# EAGLE library part DSPIC33EP512GM310 (library capstone)
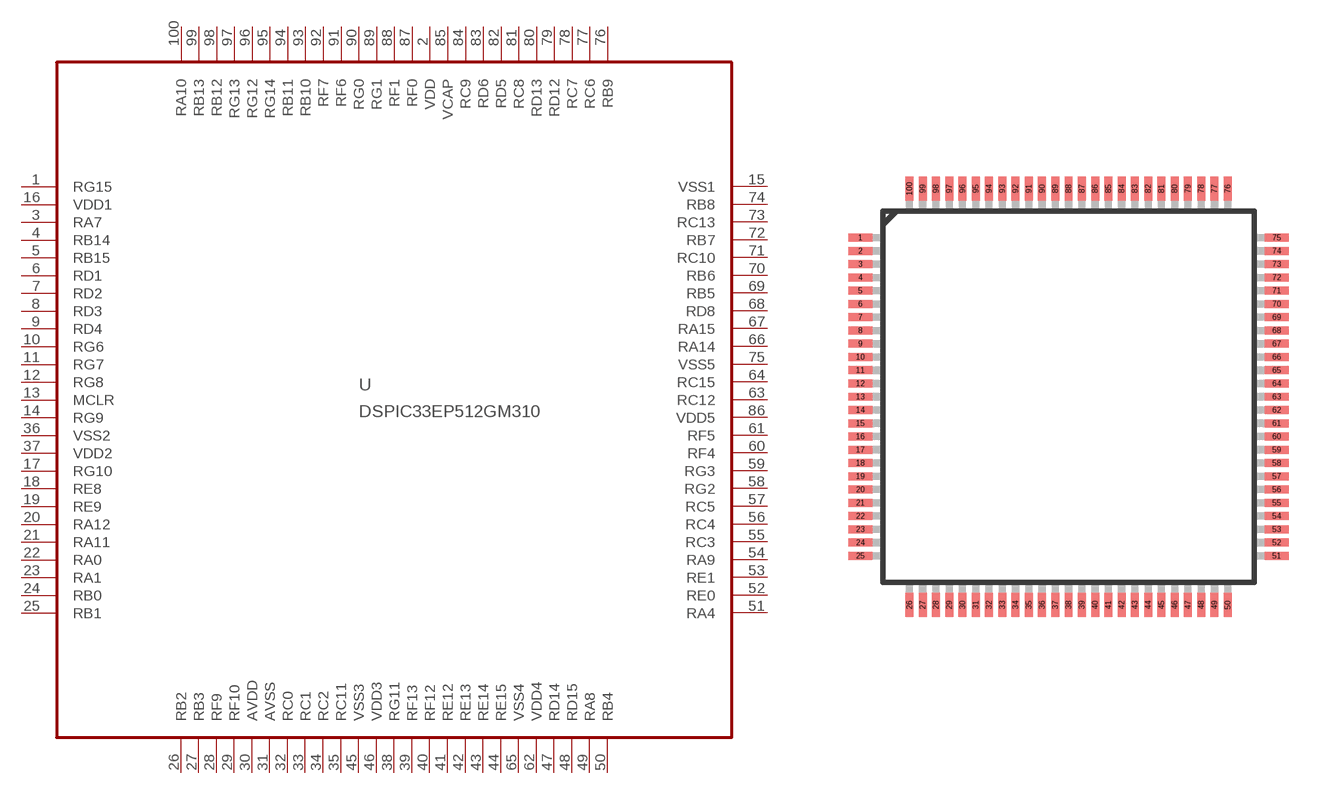
[diagram p0: symbol with the pads of TQFP100; footprint TQFP100]

Designator prefix U

## DSPIC33EP512GM310  [TQFP100]
1  RG15
2  VDD  pas
3  RA7
4  RB14
5  RB15
6  RD1
7  RD2
8  RD3
9  RD4
10  RG6
11  RG7
12  RG8
13  MCLR
14  RG9
15  VSS1  pwr
16  VDD1  pwr
17  RG10  in
18  RE8
19  RE9
20  RA12  out
21  RA11  in
22  RA0
23  RA1
24  RB0
25  RB1
26  RB2
27  RB3
28  RF9
29  RF10
30  AVDD  pwr
31  AVSS  pwr
32  RC0
33  RC1
34  RC2
35  RC11
36  VSS2  pwr
37  VDD2  pwr
38  RG11  in
39  RF13
40  RF12
41  RE12
42  RE13
43  RE14
44  RE15
45  VSS3  pwr
46  VDD3  pwr
47  RD14
48  RD15
49  RA8
50  RB4
51  RA4
52  RE0
53  RE1
54  RA9
55  RC3
56  RC4
57  RC5
58  RG2
59  RG3
60  RF4
61  RF5
62  VDD4  pwr
63  RC12
64  RC15
65  VSS4  pwr
66  RA14
67  RA15
68  RD8
69  RB5
70  RB6
71  RC10
72  RB7
73  RC13
74  RB8
75  VSS5  pwr
76  RB9
77  RC6
78  RC7
79  RD12
80  RD13
81  RC8
82  RD5
83  RD6
84  RC9
85  VCAP  pwr
86  VDD5  pwr
87  RF0
88  RF1
89  RG1
90  RG0
91  RF6
92  RF7
93  RB10
94  RB11
95  RG14
96  RG12
97  RG13
98  RB12
99  RB13
100  RA10

## Footprint TQFP100 (pad centres in mm)
PLASTIC 100-PIN TQFP (PZ) Auto generated by make-symbol-device-package-bsdl.ulp Rev. 19 Source: http://focus.ti.com/docs/prod/folders/print/msp430fg4618.html
smd 0.9 x 0.3: 1 -7.85,6; 2 -7.85,5.5; 3 -7.85,5; 4 -7.85,4.5; 5 -7.85,4; 6 -7.85,3.5; 7 -7.85,3; 8 -7.85,2.5; 9 -7.85,2; 10 -7.85,1.5; 11 -7.85,1; 12 -7.85,0.5; 13 -7.85,0; 14 -7.85,-0.5; 15 -7.85,-1; 16 -7.85,-1.5; 17 -7.85,-2; 18 -7.85,-2.5; 19 -7.85,-3; 20 -7.85,-3.5; 21 -7.85,-4; 22 -7.85,-4.5; 23 -7.85,-5; 24 -7.85,-5.5; 25 -7.85,-6; 51 7.85,-6; 52 7.85,-5.5; 53 7.85,-5; 54 7.85,-4.5; 55 7.85,-4; 56 7.85,-3.5; 57 7.85,-3; 58 7.85,-2.5; 59 7.85,-2; 60 7.85,-1.5; 61 7.85,-1; 62 7.85,-0.5; 63 7.85,0; 64 7.85,0.5; 65 7.85,1; 66 7.85,1.5; 67 7.85,2; 68 7.85,2.5; 69 7.85,3; 70 7.85,3.5; 71 7.85,4; 72 7.85,4.5; 73 7.85,5; 74 7.85,5.5; 75 7.85,6
smd 0.3 x 0.9: 26 -6,-7.85; 27 -5.5,-7.85; 28 -5,-7.85; 29 -4.5,-7.85; 30 -4,-7.85; 31 -3.5,-7.85; 32 -3,-7.85; 33 -2.5,-7.85; 34 -2,-7.85; 35 -1.5,-7.85; 36 -1,-7.85; 37 -0.5,-7.85; 38 0,-7.85; 39 0.5,-7.85; 40 1,-7.85; 41 1.5,-7.85; 42 2,-7.85; 43 2.5,-7.85; 44 3,-7.85; 45 3.5,-7.85; 46 4,-7.85; 47 4.5,-7.85; 48 5,-7.85; 49 5.5,-7.85; 50 6,-7.85; 76 6,7.85; 77 5.5,7.85; 78 5,7.85; 79 4.5,7.85; 80 4,7.85; 81 3.5,7.85; 82 3,7.85; 83 2.5,7.85; 84 2,7.85; 85 1.5,7.85; 86 1,7.85; 87 0.5,7.85; 88 0,7.85; 89 -0.5,7.85; 90 -1,7.85; 91 -1.5,7.85; 92 -2,7.85; 93 -2.5,7.85; 94 -3,7.85; 95 -3.5,7.85; 96 -4,7.85; 97 -4.5,7.85; 98 -5,7.85; 99 -5.5,7.85; 100 -6,7.85